# Altium schematic symbol library WiFiModules.SchLib: 1 symbol
Pins are listed as number, name and electrical type; pins without a type are passive.

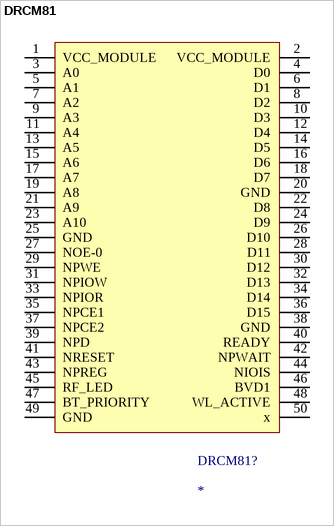
[diagram p0: symbol DRCM81]

## DRCM81
designator DRCM81?
DRCM81 Wifi Module
footprint DRCM81
pins: 1 VCC_MODULE, 2 VCC_MODULE, 3 A0, 4 D0, 5 A1, 6 D1, 7 A2, 8 D2, 9 A3, 10 D3, 11 A4, 12 D4, 13 A5, 14 D5, 15 A6, 16 D6, 17 A7, 18 D7, 19 A8, 20 GND, 21 A9, 22 D8, 23 A10, 24 D9, 25 GND, 26 D10, 27 NOE-0, 28 D11, 29 NPWE, 30 D12, 31 NPIOW, 32 D13, 33 NPIOR, 34 D14, 35 NPCE1, 36 D15, 37 NPCE2, 38 GND, 39 NPD, 40 READY, 41 NRESET, 42 NPWAIT, 43 NPREG, 44 NIOIS, 45 RF_LED, 46 BVD1, 47 BT_PRIORITY, 48 WL_ACTIVE, 49 GND, 50 x